# Altium integrated library TI Amplifiers and Linear Operational Amplifier Precision Amplifier Part Two.IntLib: 2300 symbols (part 81 of 81)
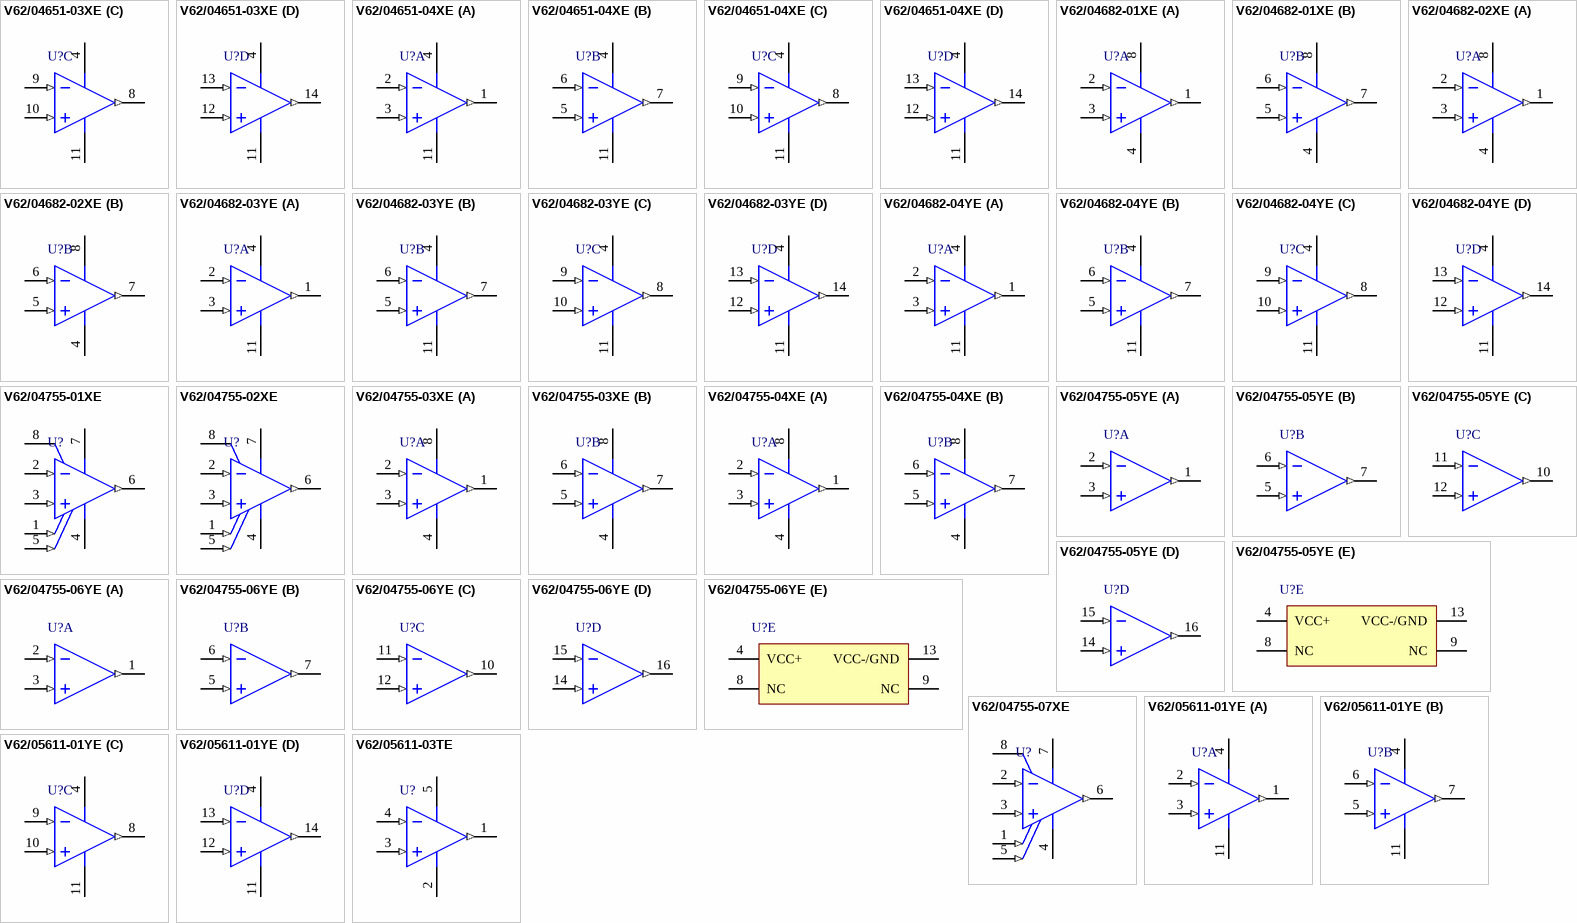
[diagram p216: symbols V62/04651-03XE to V62/05611-03TE]

## V62/05611-01YE
designator U?
Enhanced Product 550 uA/Ch 3-Mhz Rail-to-Rail Input / Output Operational Amplifier, 2.7 to 16 V, -55 to 125 degC, 14-pin SOIC (D14), Green (RoHS & no Sb/Br); Manufacturer: Texas Instruments; PartNumber: V62/05611-01YE; CMRR(Min)(dB): 50; GBW(Typ)(MHz): 2.4; IIB(Max)(pA): 60; Iq per channel(Max)(mA): 0.9; Number of Channels: 4; Offset Drift(Typ)(uV/C): 2; Packing: LARGE T&R; Rating: HiRel Enhanced Product; Sub Family: Low Supply Voltage Amplifier (<=2.7V), Precision Amplifier; Total Supply Voltage(Max)(+5V is 5, +/-5V is 10): 16; Total Supply Voltage(Min)(+5V is 5, +/-5V is 10): 2.7; Vio (25C)(Max)(mV): 4.5; DatasheetVersion: SGLS306A; PackageVersion: 4040047-5/M, 06/2011; PackageReference: D14; PackageDescription: 14-Pin Plastic Small Outline, Body 8.65 x 3.9 mm, Pitch 1.27 mm; Supplier 1: Mouser; Supplier Part Number 1: 595-V62/05611-01YE; Eco-Plan: Green (RoHS & no Sb/Br); Slew Rate(Typ)(V/us): 2; Mounting Technology: Surface Mount; Code_JEDEC: MS-012; ComponentLink1Description: Manufacturer URL; ComponentLink1URL: http://www.ti.com/; ComponentLink2Description: Datasheet; ComponentLink2URL: http://www.ti.com/lit/ds/symlink/tlv2374-ep.pdf; ComponentLink3Description: Package Specification; ComponentLink3URL: http://www.ti.com/lit/ml/mpds177g/mpds177g.pdf
footprint TI-D14_N (SOIC, 14-Leads, Body 8.65x3.9mm, Pitch 1.27mm, IPC Medium Density)
footprint TI-D14_L (SOIC, 14-Leads, Body 8.65x3.9mm, Pitch 1.27mm, IPC High Density)
footprint TI-D14_M (SOIC, 14-Leads, Body 8.65x3.9mm, Pitch 1.27mm, IPC Low Density)
pins on every part: 4 VDD (power), 11 GND (power)
part A pins: 1 OUT1 (out), 2 IN1- (in), 3 IN1+ (in)
part B pins: 5 IN2+ (in), 6 IN2- (in), 7 OUT2 (out)
part C pins: 8 OUT3 (out), 9 IN3- (in), 10 IN3+ (in)
part D pins: 12 IN4+ (in), 13 IN4- (in), 14 OUT4 (out)

## V62/05611-03TE
designator U?
Enhanced Product 550 uA/Ch 3-Mhz Rail-to-Rail Input / Output Operational Amplifier, 2.7 to 16 V, -55 to 125 degC, 5-pin SOT23 (DBV5), Green (RoHS & no Sb/Br); Manufacturer: Texas Instruments; PartNumber: V62/05611-03TE; CMRR(Min)(dB): 50; GBW(Typ)(MHz): 2.4; IIB(Max)(pA): 60; Iq per channel(Max)(mA): 0.9; Number of Channels: 1; Offset Drift(Typ)(uV/C): 2; Packing: LARGE T&R; Rating: HiRel Enhanced Product; Sub Family: Precision Amplifier; Total Supply Voltage(Max)(+5V is 5, +/-5V is 10): 16; Total Supply Voltage(Min)(+5V is 5, +/-5V is 10): 2.7; Vio (25C)(Max)(mV): 4.5; DatasheetVersion: SGLS306A; PackageVersion: 4073253-4/K, 03/2006; PackageReference: DBV5; PackageDescription: 5-Pin Plastic Small Outline, Body 1.6 x 2.9 mm, Pitch 0.95 mm; Supplier 1: Mouser; Supplier Part Number 1: 595-V62/05611-03TE; Eco-Plan: Green (RoHS & no Sb/Br); Slew Rate(Typ)(V/us): 2; Mounting Technology: Surface Mount; Code_JEDEC: MO-178; ComponentLink1Description: Manufacturer URL; ComponentLink1URL: http://www.ti.com/; ComponentLink2Description: Datasheet; ComponentLink2URL: http://www.ti.com/lit/ds/symlink/tlv2371-ep.pdf; ComponentLink3Description: Package Specification; ComponentLink3URL: http://www.ti.com/litv/pdf/mpds018i
footprint TI-DBV5_N (SOT23, 5-Leads, Body 2.9x1.6mm, Pitch 0.95mm, IPC Medium Density)
footprint TI-DBV5_L (SOT23, 5-Leads, Body 2.9x1.6mm, Pitch 0.95mm, IPC High Density)
footprint TI-DBV5_M (SOT23, 5-Leads, Body 2.9x1.6mm, Pitch 0.95mm, IPC Low Density)
pins: 1 OUT (out), 2 GND (power), 3 IN+ (in), 4 IN- (in), 5 VDD (power)

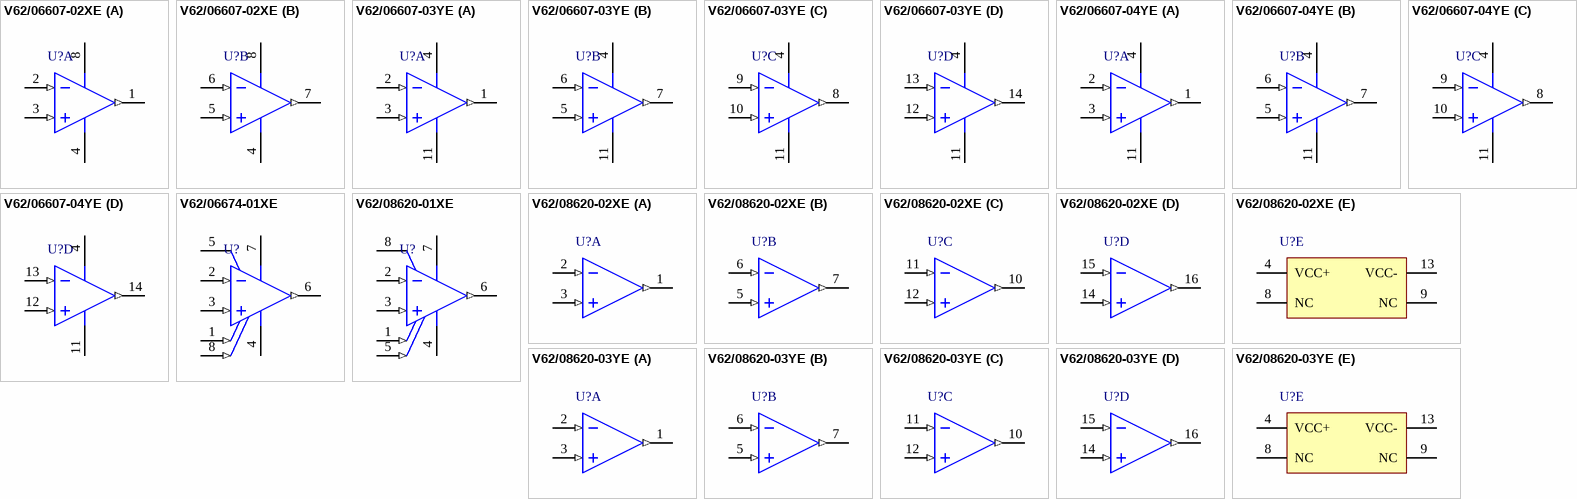
[diagram p136: symbols V62/06607-02XE to V62/08620-03YE]

## V62/06607-02XE
designator U?
Enhanced Product High-Slew-Rate Rail-to-Rail Output Operational Amplifier with Shutdown, 2.5 to 6 V, -55 to 125 degC, 8-pin SOIC (D8), Green (RoHS & no Sb/Br); Manufacturer: Texas Instruments; PartNumber: V62/06607-02XE; CMRR(Min)(dB): 60; GBW(Typ)(MHz): 5.1; Iq per channel(Max)(mA): 2; Packing: LARGE T&R; Rating: HiRel Enhanced Product; Slew Rate(Typ)(V/us): 10.5; Sub Family: Precision Amplifier; Total Supply Voltage(Max)(+5V is 5, +/-5V is 10): 6; Total Supply Voltage(Min)(+5V is 5, +/-5V is 10): 2.5; Vio (25C)(Max)(mV): 1.6; DatasheetVersion: SGLS317A; PackageVersion: 4040047-3/M, 06/2011; PackageReference: D8; PackageDescription: 8-Pin Plastic Small Outline, Body 4.9 x 3.9 mm, Pitch 1.27 mm; Eco-Plan: Green (RoHS & no Sb/Br); IIB(Max)(pA): 60; Number of Channels: 2; Offset Drift(Typ)(uV/C): 2; Mounting Technology: Surface Mount; Code_JEDEC: MS-012; ComponentLink1Description: Manufacturer URL; ComponentLink1URL: http://www.ti.com/; ComponentLink2Description: Datasheet; ComponentLink2URL: http://www.ti.com/lit/ds/symlink/tlv2772a-ep.pdf; ComponentLink3Description: Package Specification; ComponentLink3URL: http://www.ti.com/litv/pdf/msoi002j
footprint TI-D8_N (SOIC, 8-Leads, Body 4.9x3.9mm, Pitch 1.27mm, IPC Medium Density)
footprint TI-D8_L (SOIC, 8-Leads, Body 4.9x3.9mm, Pitch 1.27mm, IPC High Density)
footprint TI-D8_M (SOIC, 8-Leads, Body 4.9x3.9mm, Pitch 1.27mm, IPC Low Density)
pins on every part: 4 GND (power), 8 VDD (power)
part A pins: 1 OUT1 (out), 2 IN1- (in), 3 IN1+ (in)
part B pins: 5 IN2+ (in), 6 IN2- (in), 7 OUT2 (out)

## V62/06607-03YE
designator U?
Enhanced Product High-Slew-Rate Rail-to-Rail Output Operational Amplifier with Shutdown, 2.5 to 6 V, -55 to 125 degC, 14-pin SOIC (D14), Green (RoHS & no Sb/Br); Manufacturer: Texas Instruments; PartNumber: V62/06607-03YE; CMRR(Min)(dB): 60; GBW(Typ)(MHz): 5.1; Iq per channel(Max)(mA): 2; Number of Channels: 4; Packing: LARGE T&R; Rating: HiRel Enhanced Product; Slew Rate(Typ)(V/us): 10.5; Sub Family: High Output Current Amplifier (>=50mA), Precision Amplifier; Total Supply Voltage(Max)(+5V is 5, +/-5V is 10): 6; Total Supply Voltage(Min)(+5V is 5, +/-5V is 10): 2.5; DatasheetVersion: SGLS317A; PackageVersion: 4040047-5/M, 06/2011; PackageReference: D14; PackageDescription: 14-Pin Plastic Small Outline, Body 8.65 x 3.9 mm, Pitch 1.27 mm; Eco-Plan: Green (RoHS & no Sb/Br); IIB(Max)(pA): 60; Offset Drift(Typ)(uV/C): 2; Vio (25C)(Max)(mV): 2.5; Mounting Technology: Surface Mount; Code_JEDEC: MS-012; ComponentLink1Description: Manufacturer URL; ComponentLink1URL: http://www.ti.com/; ComponentLink2Description: Datasheet; ComponentLink2URL: http://www.ti.com/lit/ds/symlink/tlv2774-ep.pdf; ComponentLink3Description: Package Specification; ComponentLink3URL: http://www.ti.com/lit/ml/mpds177g/mpds177g.pdf
footprint TI-D14_N (SOIC, 14-Leads, Body 8.65x3.9mm, Pitch 1.27mm, IPC Medium Density)
footprint TI-D14_L (SOIC, 14-Leads, Body 8.65x3.9mm, Pitch 1.27mm, IPC High Density)
footprint TI-D14_M (SOIC, 14-Leads, Body 8.65x3.9mm, Pitch 1.27mm, IPC Low Density)
pins on every part: 4 VDD (power), 11 GND (power)
part A pins: 1 OUT1 (out), 2 IN1- (in), 3 IN1+ (in)
part B pins: 5 IN2+ (in), 6 IN2- (in), 7 OUT2 (out)
part C pins: 8 OUT3 (out), 9 IN3- (in), 10 IN3+ (in)
part D pins: 12 IN4+ (in), 13 IN4- (in), 14 OUT4 (out)

## V62/06607-04YE
designator U?
Enhanced Product High-Slew-Rate Rail-to-Rail Output Operational Amplifier with Shutdown, 2.5 to 6 V, -55 to 125 degC, 14-pin SOIC (D14), Green (RoHS & no Sb/Br); Manufacturer: Texas Instruments; PartNumber: V62/06607-04YE; CMRR(Min)(dB): 60; GBW(Typ)(MHz): 5.1; Iq per channel(Max)(mA): 2; Number of Channels: 4; Packing: LARGE T&R; Rating: HiRel Enhanced Product; Slew Rate(Typ)(V/us): 10.5; Sub Family: High Output Current Amplifier (>=50mA), Precision Amplifier; Total Supply Voltage(Max)(+5V is 5, +/-5V is 10): 6; Total Supply Voltage(Min)(+5V is 5, +/-5V is 10): 2.5; Vio (25C)(Max)(mV): 2.1; DatasheetVersion: SGLS317A; PackageVersion: 4040047-5/M, 06/2011; PackageReference: D14; PackageDescription: 14-Pin Plastic Small Outline, Body 8.65 x 3.9 mm, Pitch 1.27 mm; Eco-Plan: Green (RoHS & no Sb/Br); IIB(Max)(pA): 60; Offset Drift(Typ)(uV/C): 2; Mounting Technology: Surface Mount; Code_JEDEC: MS-012; ComponentLink1Description: Manufacturer URL; ComponentLink1URL: http://www.ti.com/; ComponentLink2Description: Datasheet; ComponentLink2URL: http://www.ti.com/lit/ds/symlink/tlv2774a-ep.pdf; ComponentLink3Description: Package Specification; ComponentLink3URL: http://www.ti.com/lit/ml/mpds177g/mpds177g.pdf
footprint TI-D14_N (SOIC, 14-Leads, Body 8.65x3.9mm, Pitch 1.27mm, IPC Medium Density)
footprint TI-D14_L (SOIC, 14-Leads, Body 8.65x3.9mm, Pitch 1.27mm, IPC High Density)
footprint TI-D14_M (SOIC, 14-Leads, Body 8.65x3.9mm, Pitch 1.27mm, IPC Low Density)
pins on every part: 4 VDD (power), 11 GND (power)
part A pins: 1 OUT1 (out), 2 IN1- (in), 3 IN1+ (in)
part B pins: 5 IN2+ (in), 6 IN2- (in), 7 OUT2 (out)
part C pins: 8 OUT3 (out), 9 IN3- (in), 10 IN3+ (in)
part D pins: 12 IN4+ (in), 13 IN4- (in), 14 OUT4 (out)

## V62/06674-01XE
designator U?
Enhanced Product Excalibur Low-Noise High-Speed Precision Operational Amplifier, 8 to 38 V, -55 to 125 degC, 8-pin SOIC (D8), Green (RoHS & no Sb/Br); Manufacturer: Texas Instruments; PartNumber: V62/06674-01XE; CMRR(Min)(dB): 100; GBW(Typ)(MHz): 13; IIB(Max)(pA): 90000; Iq per channel(Max)(mA): 5.3; Number of Channels: 1; Offset Drift(Typ)(uV/C): 0.4; Packing: LARGE T&R; Rating: HiRel Enhanced Product; Slew Rate(Typ)(V/us): 2.8; Sub Family: High Supply Voltage Amplifier (>=30V), Low Noise Amp (<=10nV/rtHz), Low Offset Voltage Amplifier (<=500uV), Precision Amplifier; Total Supply Voltage(Max)(+5V is 5, +/-5V is 10): 38; Total Supply Voltage(Min)(+5V is 5, +/-5V is 10): 8; Vio (25C)(Max)(mV): 0.1; DatasheetVersion: SLOS511; PackageVersion: 4040047-3/M, 06/2011; PackageReference: D8; PackageDescription: 8-Pin Plastic Small Outline, Body 4.9 x 3.9 mm, Pitch 1.27 mm; Supplier 1: Newark; Supplier Part Number 1: 50M9166; Supplier 2: Mouser; Supplier Part Number 2: 595-V62/06674-01XE; Eco-Plan: Green (RoHS & no Sb/Br); Mounting Technology: Surface Mount; Code_JEDEC: MS-012; ComponentLink1Description: Manufacturer URL; ComponentLink1URL: http://www.ti.com/; ComponentLink2Description: Datasheet; ComponentLink2URL: http://www.ti.com/lit/ds/symlink/tle2027-ep.pdf; ComponentLink3Description: Package Specification; ComponentLink3URL: http://www.ti.com/litv/pdf/msoi002j
footprint TI-D8_N (SOIC, 8-Leads, Body 4.9x3.9mm, Pitch 1.27mm, IPC Medium Density)
footprint TI-D8_L (SOIC, 8-Leads, Body 4.9x3.9mm, Pitch 1.27mm, IPC High Density)
footprint TI-D8_M (SOIC, 8-Leads, Body 4.9x3.9mm, Pitch 1.27mm, IPC Low Density)
pins: 1 OFFSET N1 (in), 2 IN- (in), 3 IN+ (in), 4 VCC- (power), 5 NC, 6 OUT (out), 7 VCC+ (power), 8 OFFSET N2 (in)

## V62/08620-01XE
designator U?
Enhanced Product Excaliber Low-Noise High-Speed Precision Operational Amplifier, 4 to 44 V, -55 to 125 degC, 8-pin SOIC (D8), Green (RoHS & no Sb/Br); Manufacturer: Texas Instruments; PartNumber: V62/08620-01XE; CMRR(Min)(dB): 85; GBW(Typ)(MHz): 5.8; IIB(Max)(pA): 2000000; Iq per channel(Max)(mA): 4.4; Number of Channels: 1; Offset Drift(Typ)(uV/C): 1.7; Packing: LARGE T&R; Rating: HiRel Enhanced Product; Slew Rate(Typ)(V/us): 45; Sub Family: High Output Current Amplifier (>=50mA), High Supply Voltage Amplifier (>=30V), Precision Amplifier; Total Supply Voltage(Max)(+5V is 5, +/-5V is 10): 44; Total Supply Voltage(Min)(+5V is 5, +/-5V is 10): 4; Vio (25C)(Max)(mV): 1.4; DatasheetVersion: SLOS577; PackageVersion: 4040047-3/M, 06/2011; PackageReference: D8; PackageDescription: 8-Pin Plastic Small Outline, Body 4.9 x 3.9 mm, Pitch 1.27 mm; Supplier 1: Mouser; Supplier Part Number 1: 595-V62/08620-01XE; Eco-Plan: Green (RoHS & no Sb/Br); Mounting Technology: Surface Mount; Code_JEDEC: MS-012; ComponentLink1Description: Manufacturer URL; ComponentLink1URL: http://www.ti.com/; ComponentLink2Description: Datasheet; ComponentLink2URL: http://www.ti.com/lit/ds/symlink/tle2141-ep.pdf; ComponentLink3Description: Package Specification; ComponentLink3URL: http://www.ti.com/litv/pdf/msoi002j
footprint TI-D8_N (SOIC, 8-Leads, Body 4.9x3.9mm, Pitch 1.27mm, IPC Medium Density)
footprint TI-D8_L (SOIC, 8-Leads, Body 4.9x3.9mm, Pitch 1.27mm, IPC High Density)
footprint TI-D8_M (SOIC, 8-Leads, Body 4.9x3.9mm, Pitch 1.27mm, IPC Low Density)
pins: 1 OFFSET N1 (in), 2 IN- (in), 3 IN+ (in), 4 VCC- (power), 5 OFFSET N2 (in), 6 OUT (out), 7 VCC+ (power), 8 NC

## V62/08620-02XE
designator U?
Enhanced Product Excaliber Low-Noise High-Speed Precision Quad Operational Amplifier, 4 to 44 V, -55 to 125 degC, 16-pin SOIC (DW16); Manufacturer: Texas Instruments; PartNumber: V62/08620-02XE; CMRR(Min)(dB): 85; GBW(Typ)(MHz): 5.8; IIB(Max)(pA): 2000000; Iq per channel(Max)(mA): 4.4; Number of Channels: 4; Offset Drift(Typ)(uV/C): 1.7; Rating: HiRel Enhanced Product; Slew Rate(Typ)(V/us): 45; Sub Family: High Output Current Amplifier (>=50mA), Precision Amplifier; Total Supply Voltage(Max)(+5V is 5, +/-5V is 10): 44; Vio (25C)(Max)(mV): 3.8; DatasheetVersion: SLOS577; PackageVersion: 4040000-2/G, 01/2011; PackageReference: DW16; PackageDescription: 16-Pin Plastic Small Outline, Body 10.30 x 7.50 mm, Pitch 1.27 mm; Supplier 1: Mouser; Supplier Part Number 1: N/A; Total Supply Voltage(Min)(+5V is 5, +/-5V is 10): 4; Mounting Technology: Surface Mount; Code_JEDEC: MS-013; ComponentLink1Description: Manufacturer URL; ComponentLink1URL: http://www.ti.com/; ComponentLink2Description: Datasheet; ComponentLink2URL: http://www.ti.com/lit/ds/symlink/tle2144-ep.pdf; ComponentLink3Description: Package Specification; ComponentLink3URL: http://www.ti.com/litv/pdf/msoi003g
footprint TI-DW16_N (SOIC, 16-Leads, Body 10.3x7.5mm, Pitch 1.27mm, IPC Medium Density)
footprint TI-DW16_L (SOIC, 16-Leads, Body 10.3x7.5mm, Pitch 1.27mm, IPC High Density)
footprint TI-DW16_M (SOIC, 16-Leads, Body 10.3x7.5mm, Pitch 1.27mm, IPC Low Density)
part A pins: 1 OUT1 (out), 2 IN1- (in), 3 IN1+ (in)
part B pins: 5 IN2+ (in), 6 IN2- (in), 7 OUT2 (out)
part C pins: 10 OUT3 (out), 11 IN3- (in), 12 IN3+ (in)
part D pins: 14 IN4+ (in), 15 IN4- (in), 16 OUT4 (out)
part E pins: 4 VCC+ (power), 8 NC, 9 NC, 13 VCC- (power)

## V62/08620-03YE
designator U?
Enhanced Product Excaliber Low-Noise High-Speed Precision Quad Operational Amplifier, 4 to 44 V, -55 to 125 degC, 16-pin SOIC (DW16), Green (RoHS & no Sb/Br); Manufacturer: Texas Instruments; PartNumber: V62/08620-03YE; CMRR(Min)(dB): 85; GBW(Typ)(MHz): 5.8; IIB(Max)(pA): 2000000; Iq per channel(Max)(mA): 4.4; Number of Channels: 4; Offset Drift(Typ)(uV/C): 1.7; Packing: LARGE T&R; Rating: HiRel Enhanced Product; Slew Rate(Typ)(V/us): 45; Sub Family: High Output Current Amplifier (>=50mA), Precision Amplifier; Total Supply Voltage(Max)(+5V is 5, +/-5V is 10): 44; Vio (25C)(Max)(mV): 3.8; DatasheetVersion: SLOS577; PackageVersion: 4040000-2/G, 01/2011; PackageReference: DW16; PackageDescription: 16-Pin Plastic Small Outline, Body 10.30 x 7.50 mm, Pitch 1.27 mm; Supplier 1: Mouser; Supplier Part Number 1: 595-V62/08620-03YE; Eco-Plan: Green (RoHS & no Sb/Br); Total Supply Voltage(Min)(+5V is 5, +/-5V is 10): 4; Mounting Technology: Surface Mount; Code_JEDEC: MS-013; ComponentLink1Description: Manufacturer URL; ComponentLink1URL: http://www.ti.com/; ComponentLink2Description: Datasheet; ComponentLink2URL: http://www.ti.com/lit/ds/symlink/tle2144-ep.pdf; ComponentLink3Description: Package Specification; ComponentLink3URL: http://www.ti.com/litv/pdf/msoi003g
footprint TI-DW16_N (SOIC, 16-Leads, Body 10.3x7.5mm, Pitch 1.27mm, IPC Medium Density)
footprint TI-DW16_L (SOIC, 16-Leads, Body 10.3x7.5mm, Pitch 1.27mm, IPC High Density)
footprint TI-DW16_M (SOIC, 16-Leads, Body 10.3x7.5mm, Pitch 1.27mm, IPC Low Density)
part A pins: 1 OUT1 (out), 2 IN1- (in), 3 IN1+ (in)
part B pins: 5 IN2+ (in), 6 IN2- (in), 7 OUT2 (out)
part C pins: 10 OUT3 (out), 11 IN3- (in), 12 IN3+ (in)
part D pins: 14 IN4+ (in), 15 IN4- (in), 16 OUT4 (out)
part E pins: 4 VCC+ (power), 8 NC, 9 NC, 13 VCC- (power)